# EAGLE library part BQ25892RTWT (library Joule Expansion Board)
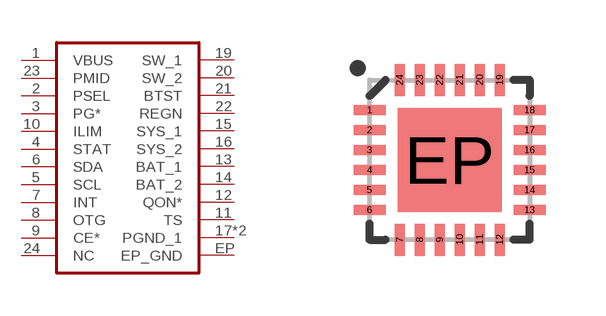
[diagram p16: symbol with the pads of WQFN-24; footprint WQFN-24]

Designator prefix -

## BQ25892RTWT  [WQFN-24]
1  VBUS
2  PSEL
3  PG*
4  STAT
5  SCL
6  SDA
7  INT
8  OTG
9  CE*
10  ILIM
11  TS
12  QON*
13  BAT_1
14  BAT_2
15  SYS_1
16  SYS_2
17  PGND_1
18  PGND_1
19  SW_1
20  SW_2
21  BTST
22  REGN
23  PMID
24  NC
EP  EP_GND

## Footprint WQFN-24 (pad centres in mm)
WQFN - 24 Pin Specifications: Pin count: 24 Datasheet referenced for footprint <http://www.ti.com/lit/ds/symlink/lp55231.pdf> Example device(s): LP55231
smd 0.8 x 0.25: 1 -2,1.25; 2 -2,0.75; 3 -2,0.25; 4 -2,-0.25; 5 -2,-0.75; 6 -2,-1.25; 13 2,-1.25; 14 2,-0.75; 15 2,-0.25; 16 2,0.25; 17 2,0.75; 18 2,1.25
smd 0.25 x 0.8: 7 -1.25,-2; 8 -0.75,-2; 9 -0.25,-2; 10 0.25,-2; 11 0.75,-2; 12 1.25,-2; 19 1.25,2; 20 0.75,2; 21 0.25,2; 22 -0.25,2; 23 -0.75,2; 24 -1.25,2
smd 2.6 x 2.6: EP 0,0